# Altium footprint library PCB - DIODES - LED RGB 4-PLCC 3228 2.1MM.PcbLib: 1 footprints
Each footprint in its own frame and in the unit in brackets; x right, y up, seen from the top. Pads: shape width x height; smd on the part's side, far side on the other; paste and mask are expansions set on the pad; w line width, h text height; cw(c..) or ccw(c..) is an arc to the next point about the centre after c.
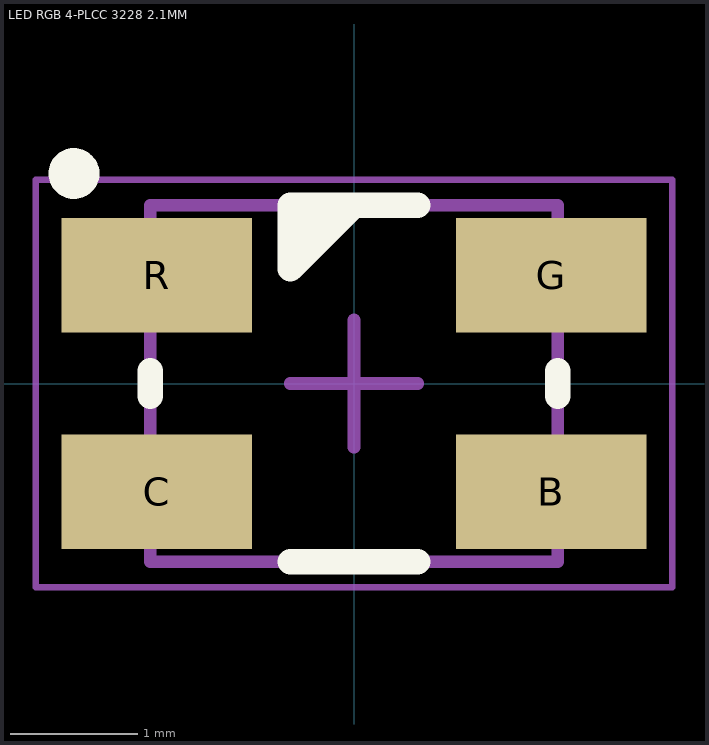
[diagram p0: the footprint, top view; thin cyan lines are the x and y axes]

## LED RGB 4-PLCC 3228 2.1MM [mm] "SMD RGB LED Indicattion - 2V Red 3.2V Green 3.2V Blue, 4 Pads, Body 3.20x2.80mm, 4-PLCC"
height 2.1
pads (4):
  rect 1.5x0.9 smd: B(1.55,-0.85) C(-1.55,-0.85) G(1.55,0.85) R(-1.55,0.85)
Top Overlay:
  circle w0.2: c-2.2,1.65 r0.1
  region: -0.5,1.4 -0.5,0.9 0,1.4
  lines w0.2: -1.6,-0.1 -1.6,0.1 ; -0.5,-1.4 0.5,-1.4 ; 0,1.4 -0.5,0.9 -0.5,1.4 0.5,1.4 ; 1.6,-0.1 1.6,0.1
Mechanical 13:
  circle w0.1: c-1.143,0.889 r0.284
  lines w0.1: -1.6,-1.4 1.6,-1.4 1.6,1.4 -1.6,1.4 -1.6,-1.4
Mechanical 15:
  lines w0.05: -2.5,-1.6 -2.5,1.6 2.5,1.6 2.5,-1.6 -2.5,-1.6
Mechanical 2 (Mech9):
  lines w0.1: -0.5,0 0,0 ; 0,-0.5 0,0 ; 0,0.5 0,0 ; 0.5,0 0,0
3D body "LED RGB 4-PLCC 3228 2.1MM BASE.step": height 2.1, standoff 0, extent -1.85,-1.4 1.85,1.4
3D body "LED RGB 4-PLCC 3228 2.1MM LENS.step": height 2.42, standoff 1.2, extent -1.174,-1.174 1.175,1.175